# Altium schematic symbol library Lamp.Schlib: 1 symbol
Pins are listed as number, name and electrical type; pins without a type are passive.

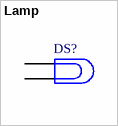
[diagram p0: symbol Lamp]

## Lamp
designator DS?
Incandescent Bulb
pins: 1, 2